# Altium integrated library Circadian2 Proto.IntLib: 7 symbols
Pins are listed as number, name and electrical type; pins without a type are passive.

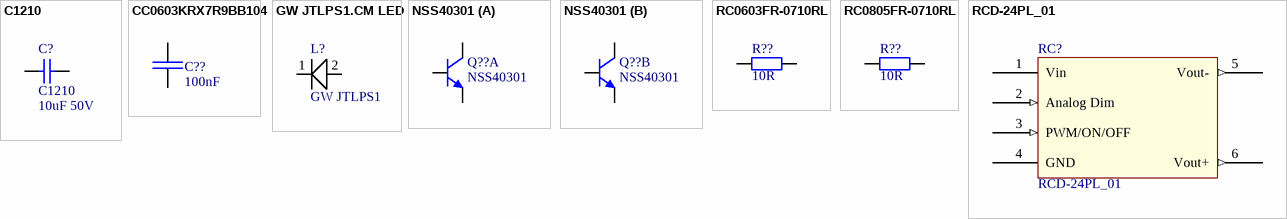
[diagram p0: symbols C1210 to RCD-24PL_01]

## C1210
designator C?  value 10uF 50V
Ceramic Chip Capacitor - Standard; Published: 17-Jul-2002; LatestRevisionDate: 19-Mar-2004; LatestRevisionNote: Silkscreen size reduced.; DatasheetDocument: Mar-2001; PackageDocument: Mar-2001; PackageReference: 1210; Publisher: Altium Limited; Code_JEITA: 1210; Code_IPC: 3225 [1210]; ComponentLink1Description: Manufacturer Link; ComponentLink1URL: http://www.kemet.com/; ComponentLink2Description: Datasheet; ComponentLink2URL: http://www.kemet.com/kemet/web/homepage/kechome.nsf/vapubfilesname/F3102TA.pdf/$file/F3102TA.pdf
footprint 1210 (Chip Capacitor; Body 3.2 x 2.5 mm (LxW typ))
simulation model CAP (Capacitor)
signal-integrity model C1210
pins: 1, 2

## CC0603KRX7R9BB104
designator C??, comment 100nF
CAP 100nF SM0603 X7R 50V YAGEO CC2; Manufacturer Part Number: CC0603KRX7R9BB104; Tolerance (%): 10; Voltage Rating (Volts): 50; Category: Capacitor; Manufacturer: Yageo; Package: 0603; Value: 100nF; Supplier Part Number 1: 1362556; Supplier 1: Farnell; ComponentLink1URL: http://www.yageo.com; ComponentLink1Description: Manufacturer Website; Supplier 2: Digi-Key; Supplier Part Number 2: 311-1344-1-ND
footprint CAP_SM0603_YAGEOCC2_N (Capacitor, Yageo CC Class2, SM0603, IPC Medium Density)
pins: 1, 2

## GW JTLPS1.CM LED
designator L?, comment GW JTLPS1
Osram LED
footprint E2835
pins: 1 K (power), 2 A (power)

## NSS40301
designator Q??
footprint SOIC8
part A pins: 1 E1, 2 B1, 7 C1, 8 C1
part B pins: 3 E2, 4 B2, 5 C2, 6 C2

## RC0603FR-0710RL
designator R??, comment 10R
RES 10R SM0603 YAGEO RC_L; Manufacturer Part Number: RC0603FR-0710RL; Power (Watts): 0.1; Resistance (Ohms): 10; Tolerance (%): 1; Category: Resistor; Manufacturer: Yageo; Package: 0603; Value: 10R; Supplier Part Number 1: 9238247; Supplier 1: Farnell; ComponentLink1URL: http://www.yageo.com; ComponentLink1Description: Manufacturer Website; Supplier 2: Digi-Key; Supplier Part Number 2: 311-10.0HRCT-ND
footprint RES_SM0603_YAGEORC_N (Resistor, Yageo RC_L, SM0603, IPC Medium Density)
pins: 1, 2

## RC0805FR-0710RL
designator R??, comment 10R
RES 10R SM0805 YAGEO RC_L; Manufacturer Part Number: RC0805FR-0710RL; Power (Watts): 0.125; Resistance (Ohms): 10; Tolerance (%): 1; Category: Resistor; Manufacturer: Yageo; Package: 0805; Value: 10R; Supplier Part Number 1: 9237240; Supplier 1: Farnell; ComponentLink1Description: Manufacturer Website; ComponentLink1URL: http://www.yageo.com; Supplier 2: Digi-Key; Supplier Part Number 2: 311-10.0CRCT-ND
footprint RES_SM0805_YAGEORC_N (Resistor, Yageo RC_L, SM0805, IPC Medium Density)
pins: 1, 2

## RCD-24PL_01
designator RC?
footprint RCD-24PL_01 (Recom LED Driver)
pins: 1 Vin (power), 2 Analog Dim (in), 3 PWM/ON/OFF (in), 4 GND (power), 5 Vout- (out), 6 Vout+ (out)